# Altium footprint library SparkFun-Sensors.PCBLIB: 67 footprints (part 5 of 5)
Each footprint in its own frame and in the unit in brackets; x right, y up, seen from the top. Pads: shape width x height; smd on the part's side, far side on the other; paste and mask are expansions set on the pad; w line width, h text height; cw(c..) or ccw(c..) is an arc to the next point about the centre after c.
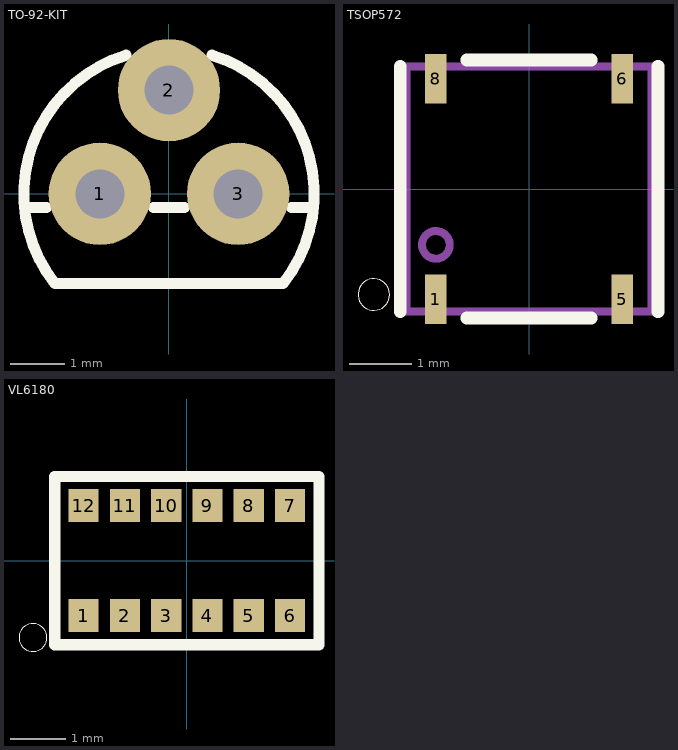
[diagram p4: the footprints below, top view; thin cyan lines are the x and y axes]

## TO-92-KIT [mil]
pads (3):
  round 74 hole 35.43: 1(-50,0) 2(0,75) 3(50,0)
Top Overlay:
  lines w8: -104.52,-10 -88.73,-10 ; -30.96,100.33 ccw(c0,0) -82.46,-65 82.46,-65 ccw(c0,0) 30.96,100.33 ; -11.27,-10 11.27,-10 ; 88.73,-10 104.52,-10
Top Solder:
  region: 0,0 10,0 10,10 0,10
  region: 0,0 10,0 10,10 0,10
  region: 0,0 10,0 10,10 0,10
Bottom Solder:
  region: 0,0 10,0 10,10 0,10
  region: 0,0 10,0 10,10 0,10
  region: 0,0 10,0 10,10 0,10

## TSOP572 [mm]
pads (4):
  rect 0.35x0.8 smd: 1(-1.5,-1.775) 5(1.5,-1.775) 6(1.5,1.775) 8(-1.5,1.775)
Top Overlay:
  circle w0: c-2.5,-1.7 r0.254
  lines w0.203: -2.077,-1.975 -2.077,1.975 ; -1,-2.077 1,-2.077 ; -1,2.077 1,2.077 ; 2.077,-1.975 2.077,1.975
Mechanical 16:
  circle w0.127: c-1.5,-0.9 r0.224
  lines w0.127: -1.975,-1.975 -1.975,1.975 1.975,1.975 1.975,-1.975 -1.975,-1.975

## VL6180 [mm]
pads (12):
  rect 0.55x0.6 smd: 1(-1.875,-1) 2(-1.125,-1) 3(-0.375,-1) 4(0.375,-1) 5(1.125,-1) 6(1.875,-1) 7(1.875,1) 8(1.125,1) 9(0.375,1) 10(-0.375,1) 11(-1.125,1) 12(-1.875,1)
Top Overlay:
  circle w0: c-2.794,-1.397 r0.254
  lines w0.203: -2.4,-1.527 2.4,-1.527 2.4,1.527 -2.4,1.527 -2.4,-1.527
Top Paste:
  region: 0,0 0.254,0 0.254,0.254 0,0.254
  region: 0,0 0.254,0 0.254,0.254 0,0.254
  region: 0,0 0.254,0 0.254,0.254 0,0.254
  region: 0,0 0.254,0 0.254,0.254 0,0.254
  region: 0,0 0.254,0 0.254,0.254 0,0.254
  region: 0,0 0.254,0 0.254,0.254 0,0.254
  region: 0,0 0.254,0 0.254,0.254 0,0.254
  region: 0,0 0.254,0 0.254,0.254 0,0.254
  region: 0,0 0.254,0 0.254,0.254 0,0.254
  region: 0,0 0.254,0 0.254,0.254 0,0.254
  region: 0,0 0.254,0 0.254,0.254 0,0.254
  region: 0,0 0.254,0 0.254,0.254 0,0.254